# Altium schematic symbol library RS2BE-20-G-SMT.SchLib: 1 symbol
Pins are listed as number, name and electrical type; pins without a type are passive.

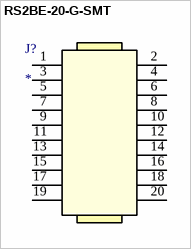
[diagram p0: symbol RS2BE-20-G-SMT]

## RS2BE-20-G-SMT
designator J?
No Description Available; Mfr_Name: ADAM TECHNOLOGIES INC; Type: Headers, Receptacles, Female Sockets; RefDes: RefDes
footprint CONN_RS2BE-20-G-SMT_ADM
pins: 1, 2, 3, 4, 5, 6, 7, 8, 9, 10, 11, 12, 13, 14, 15, 16, 17, 18, 19, 20